# EAGLE library part BBD (library pedals-integrated circuits)
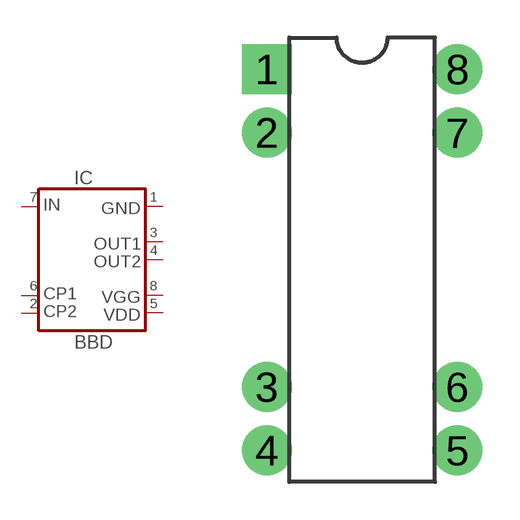
[diagram p2: symbol with the pads of BBD; footprint BBD]

Designator prefix IC

## BBD  [BBD]
1  P$1
2  P$2
3  P$3
4  P$4
5  P$5
6  P$6
7  P$7
8  P$8

## Footprint BBD (pad centres in mm)
drill 1 pad 2 square: 1 -3.81,7.62
drill 1 pad 2: 2 -3.81,5.08; 3 -3.81,-5.08; 4 -3.81,-7.62; 5 3.81,-7.62; 6 3.81,-5.08; 7 3.81,5.08; 8 3.81,7.62